# EAGLE library part MOLEX_SL_08 (library molex-sl-connectors_jw)
Molex SL-Series PCB Header, 8-Pos, 0.1" (2.54mm) Centers
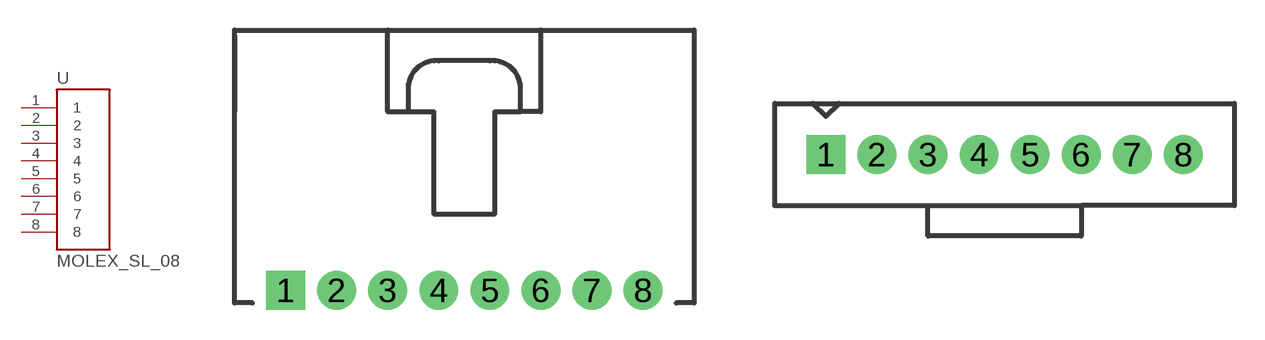
[diagram p2: symbol with the pads of SL_70553_8; footprints SL_70553_8, SL_70543_8]

Designator prefix -

## MOLEX_SL_08-70553  [SL_70553_8]
1  1
2  2
3  3
4  4
5  5
6  6
7  7
8  8

## MOLEX_SL_08-70543-74095  [SL_70543_8]
Pads as for SL_70553_8

## MOLEX_SL_08-70541-70545  [SL_70541_8]
Pads as for SL_70553_8

## MOLEX_SL_08-70551  [SL_70551_8]
Pads as for SL_70553_8

## MOLEX_SL_08-70555  [SL_70555_8]
Pads as for SL_70553_8

## MOLEX_SL_08-70634  [SL_70634_8]
Pads as for SL_70553_8

## MOLEX_SL_08-74099  [SL_74099_8]
Pads as for SL_70553_8

## MOLEX_SL_08-87898  [SL_87898_8]
Pads as for SL_70553_8

## Footprint SL_70553_8 (pad centres in mm)
Right-Angle Header w/ Latch (no pegs) 70553-0007 70553-0042 70553-0112 70553-0147 70553-5007 70553-5042
drill 1.1 pad 1.93 square: 1 -8.89,-5.08
drill 1.1 pad 1.93: 2 -6.35,-5.08; 3 -3.81,-5.08; 4 -1.27,-5.08; 5 1.27,-5.08; 6 3.81,-5.08; 7 6.35,-5.08; 8 8.89,-5.08

## Footprint SL_70543_8 (pad centres in mm)
Vertical Header w/ Latch & Optional Compliant Pins (no pegs) Normal Pins: 70543-0007 70543-0042 70543-0077 70543-0112 70543-0147 70543-0171 70543-0206 70543-0254 70543-0278 70543-0302 Compliant Pins 74095-0008 74095-0038 74095-0068 74095-1038 74095-1068
drill 1.1 pad 1.93 square: 1 -8.89,1.27
drill 1.1 pad 1.93: 2 -6.35,1.27; 3 -3.81,1.27; 4 -1.27,1.27; 5 1.27,1.27; 6 3.81,1.27; 7 6.35,1.27; 8 8.89,1.27

## Footprint SL_70541_8 (pad centres in mm)
Vertical Header w/ Latch & Pegs With Split Pegs: 70541-0007 70541-0042 70541-0077 With Tri-Pegs: 70545-0007 70545-0042 70545-0077 70545-0147 70545-0182
drill 1.1 pad 1.93 square: 1 -8.89,1.27
drill 1.1 pad 1.93: 2 -6.35,1.27; 3 -3.81,1.27; 4 -1.27,1.27; 5 1.27,1.27; 6 3.81,1.27; 7 6.35,1.27; 8 8.89,1.27
hole 3.404 at -12.954,0.508
hole 3.404 at 12.954,0.508

## Footprint SL_70551_8 (pad centres in mm)
Right-Angle Header w/ Latch & Split Pegs 70551-0007 70551-0042 70551-0077
drill 1.1 pad 1.93 square: 1 -8.89,-5.08
drill 1.1 pad 1.93: 2 -6.35,-5.08; 3 -3.81,-5.08; 4 -1.27,-5.08; 5 1.27,-5.08; 6 3.81,-5.08; 7 6.35,-5.08; 8 8.89,-5.08
hole 3.404 at -10.16,3.556
hole 3.404 at 10.16,3.556

## Footprint SL_70555_8 (pad centres in mm)
Right-Angle Header w/ Latch & Tri-Pegs 70555-0007 70555-0042 70555-0077 70555-5007
drill 1.1 pad 1.93 square: 1 -8.89,-5.08
drill 1.1 pad 1.93: 2 -6.35,-5.08; 3 -3.81,-5.08; 4 -1.27,-5.08; 5 1.27,-5.08; 6 3.81,-5.08; 7 6.35,-5.08; 8 8.89,-5.08
hole 3.404 at -10.287,3.556
hole 3.404 at 10.287,3.556

## Footprint SL_70634_8 (pad centres in mm)
SMD Right-Angle Header w/ Latch & PCB Pegs 70634-0007 70634-0042 70634-0077 70634-0112 70634-0147 70634-0182 70634-0208
smd 1.651 x 5.334: 1 -8.89,-7.62; 2 -6.35,-7.62; 3 -3.81,-7.62; 4 -1.27,-7.62; 5 1.27,-7.62; 6 3.81,-7.62; 7 6.35,-7.62; 8 8.89,-7.62
hole 3.404 at -10.312,3.048
hole 3.404 at 10.287,3.099

## Footprint SL_74099_8 (pad centres in mm)
SMD Vertical Header w/ Latch & PCB Pegs Package also includes Pick-N-Place Cap 74099-0608 74099-0628 74099-0648
smd 1.27 x 3.175: 1 -8.89,-2.108; 2 -6.35,2.108; 3 -3.81,-2.108; 4 -1.27,2.108; 5 1.27,-2.108; 6 3.81,2.108; 7 6.35,-2.108; 8 8.89,2.108

## Footprint SL_87898_8 (pad centres in mm)
SMD Vertical Header (no latch or pegs) Package also includes Pick-N-Place Cap Tube packaging w/o Pick-N-Place Cap: 87898-0821 87898-0822 87898-0824 87898-0825 87898-0826 Tube packaging w/ Pick-N-Place Cap: 87898-0831 87898-0832 87898-0834 87898-0835 87898-0836 Tape & Reel packaging w/ Pick-N-Place Cap: 87898-0851 87898-0852 87898-0854 87898-0855 87898-0856
smd 1.27 x 2.946: 1 -8.89,1.803; 2 -6.35,-1.803; 3 -3.81,1.803; 4 -1.27,-1.803; 5 1.27,1.803; 6 3.81,-1.803; 7 6.35,1.803; 8 8.89,-1.803